# EAGLE library part TL7705A (library ti)
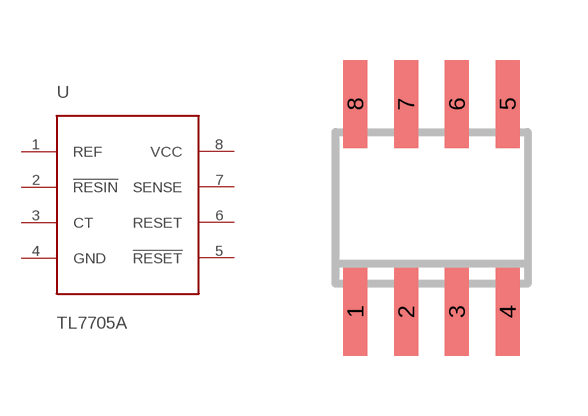
[diagram p3: symbol with the pads of SOIC-8; footprint SOIC-8]

Designator prefix -

## TL7705AD  [SOIC-8]
1  REF
2  !RESIN
3  CT
4  GND
5  !RESET
6  RESET
7  SENSE
8  VCC

## Footprint SOIC-8 (pad centres in mm)
smd 0.6 x 2.2: 1 -1.905,-2.6; 2 -0.635,-2.6; 3 0.635,-2.6; 4 1.905,-2.6; 5 1.905,2.6; 6 0.635,2.6; 7 -0.635,2.6; 8 -1.905,2.6